# EAGLE library part CDK2307D (library Mine)
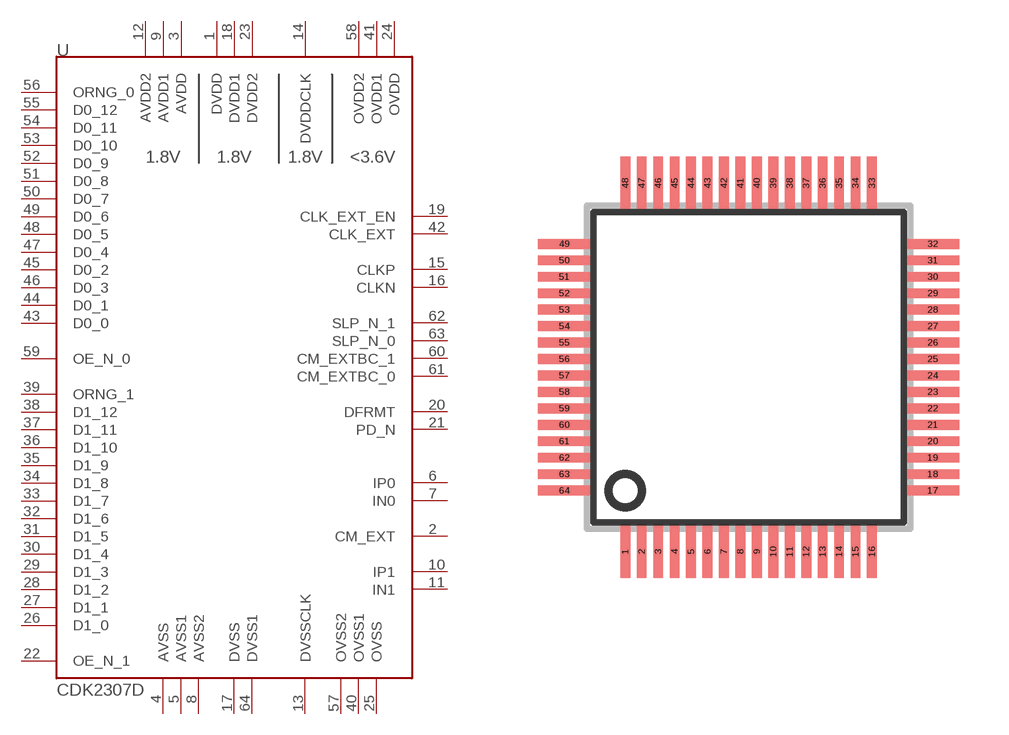
[diagram p38: symbol with the pads of SQFP-S-10X10-64; footprint SQFP-S-10X10-64]

Designator prefix -

## CDK2307D  [SQFP-S-10X10-64]
1  DVDD  sup
2  CM_EXT  out
3  AVDD  sup
4  AVSS  sup
5  AVSS1  sup
6  IP0  in
7  IN0  in
8  AVSS2  sup
9  AVDD1  sup
10  IP1  in
11  IN1  in
12  AVDD2  sup
13  DVSSCLK  sup
14  DVDDCLK  sup
15  CLKP  in
16  CLKN  in
17  DVSS  sup
18  DVDD1  sup
19  CLK_EXT_EN  in
20  DFRMT  in
21  PD_N  in
22  OE_N_1  in
23  DVDD2  sup
24  OVDD  sup
25  OVSS  sup
26  D1_0  out
27  D1_1  out
28  D1_2  out
29  D1_3  out
30  D1_4  out
31  D1_5  out
32  D1_6  out
33  D1_7  out
34  D1_8  out
35  D1_9  out
36  D1_10  out
37  D1_11  out
38  D1_12  out
39  ORNG_1  out
40  OVSS1  sup
41  OVDD1  sup
42  CLK_EXT  out
43  D0_0  out
44  D0_1  out
45  D0_2  out
46  D0_3  out
47  D0_4  out
48  D0_5  out
49  D0_6  out
50  D0_7  out
51  D0_8  out
52  D0_9  out
53  D0_10  out
54  D0_11  out
55  D0_12  out
56  ORNG_0  out
57  OVSS2  sup
58  OVDD2  sup
59  OE_N_0  in
60  CM_EXTBC_1  in
61  CM_EXTBC_0  in
62  SLP_N_1  in
63  SLP_N_0  in
64  DVSS1  sup

## Footprint SQFP-S-10X10-64 (pad centres in mm)
QFP64 shrink quad flat pack, square
smd 0.3 x 1.6: 1 -3.75,-5.6; 2 -3.25,-5.6; 3 -2.75,-5.6; 4 -2.25,-5.6; 5 -1.75,-5.6; 6 -1.25,-5.6; 7 -0.75,-5.6; 8 -0.25,-5.6; 9 0.25,-5.6; 10 0.75,-5.6; 11 1.25,-5.6; 12 1.75,-5.6; 13 2.25,-5.6; 14 2.75,-5.6; 15 3.25,-5.6; 16 3.75,-5.6; 33 3.75,5.6; 34 3.25,5.6; 35 2.75,5.6; 36 2.25,5.6; 37 1.75,5.6; 38 1.25,5.6; 39 0.75,5.6; 40 0.25,5.6; 41 -0.25,5.6; 42 -0.75,5.6; 43 -1.25,5.6; 44 -1.75,5.6; 45 -2.25,5.6; 46 -2.75,5.6; 47 -3.25,5.6; 48 -3.75,5.6
smd 1.6 x 0.3: 17 5.6,-3.75; 18 5.6,-3.25; 19 5.6,-2.75; 20 5.6,-2.25; 21 5.6,-1.75; 22 5.6,-1.25; 23 5.6,-0.75; 24 5.6,-0.25; 25 5.6,0.25; 26 5.6,0.75; 27 5.6,1.25; 28 5.6,1.75; 29 5.6,2.25; 30 5.6,2.75; 31 5.6,3.25; 32 5.6,3.75; 49 -5.6,3.75; 50 -5.6,3.25; 51 -5.6,2.75; 52 -5.6,2.25; 53 -5.6,1.75; 54 -5.6,1.25; 55 -5.6,0.75; 56 -5.6,0.25; 57 -5.6,-0.25; 58 -5.6,-0.75; 59 -5.6,-1.25; 60 -5.6,-1.75; 61 -5.6,-2.25; 62 -5.6,-2.75; 63 -5.6,-3.25; 64 -5.6,-3.75